# EAGLE library part EH_S7B-EH (library CASE-JST)
JST EH Connector, through hole, 7 pin, side entry Description: JST EH connector with 2.5 mm pitch, through hole version, 7 pin, side entry. Links: Datasheet <http://www.jst-mfg.com/product/pdf/eng/eEH.pdf>
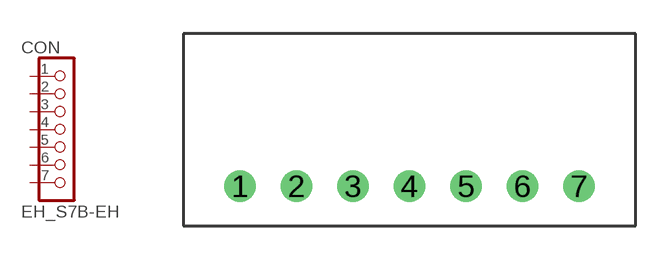
[diagram p16: symbol with the pads of S7B-EH; footprint S7B-EH]

Designator prefix CON

## EH_S7B-EH  [S7B-EH]
1  1  pas
2  2  pas
3  3  pas
4  4  pas
5  5  pas
6  6  pas
7  7  pas

## Footprint S7B-EH (pad centres in mm)
JST S7B-EH Datasheet <http://www.jst-mfg.com/product/pdf/eng/eEH.pdf>
drill 0.9: 1 -7.5,0; 2 -5,0; 3 -2.5,0; 4 0,0; 5 2.5,0; 6 5,0; 7 7.5,0